# Altium footprint library UDAC.PcbLib: 25 footprints (part 1 of 2)
Each footprint in its own frame and in the unit in brackets; x right, y up, seen from the top. Pads: shape width x height; smd on the part's side, far side on the other; paste and mask are expansions set on the pad; w line width, h text height; cw(c..) or ccw(c..) is an arc to the next point about the centre after c.
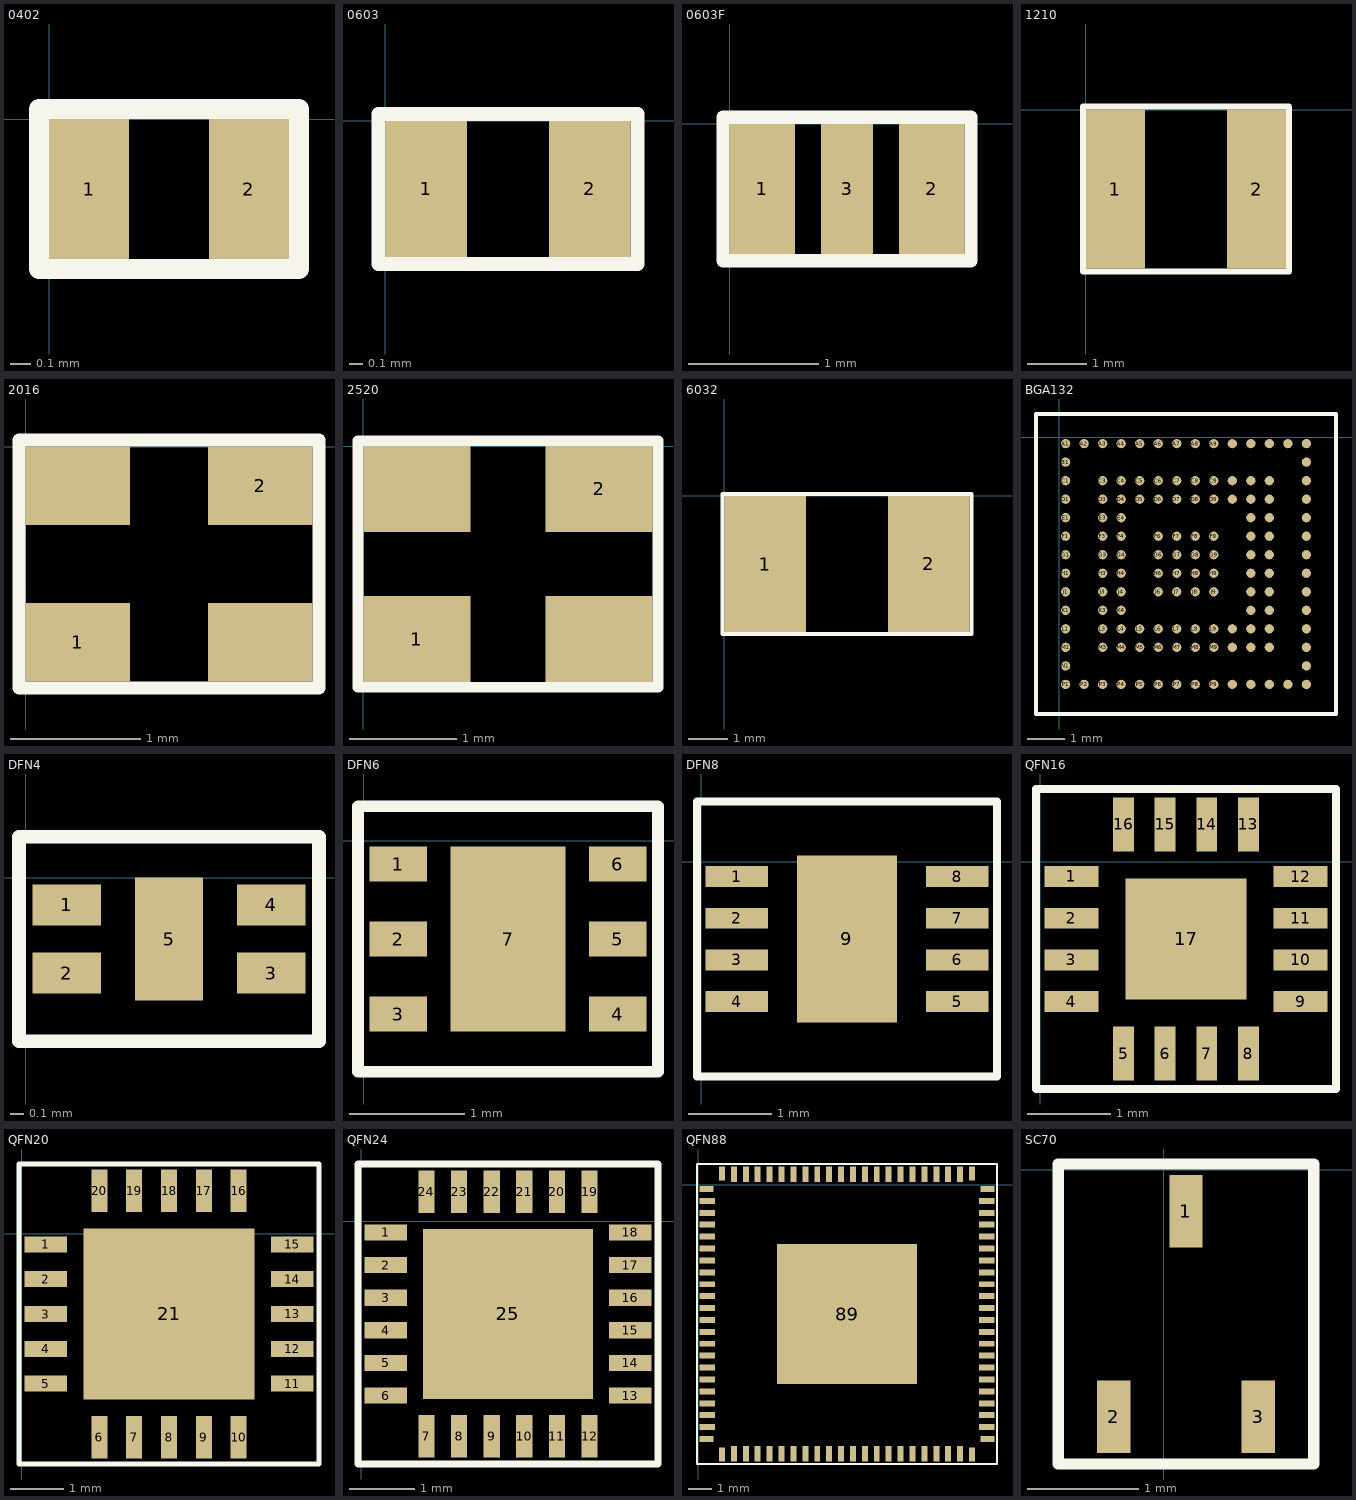
[diagram p0: the footprints below, top view; thin cyan lines are the x and y axes]

## 0402 [mm] "1005"
height 0.5
pads (2):
  rect 0.4x0.7 smd mask+0: 1(0.2,-0.35) 2(1,-0.35)
Top Overlay:
  lines w0.1: -0.05,-0.75 1.25,-0.75 1.25,0.05 -0.05,0.05 -0.05,-0.75

## 0603 [mm] "1608"
height 0.8
pads (2):
  rect 0.6x1 smd mask+0: 1(0.3,-0.5) 2(1.5,-0.5)
Top Overlay:
  lines w0.1: -0.05,-1.05 -0.05,0.05 1.85,0.05 1.85,-1.05 -0.05,-1.05

## 0603F [mm] "1608 with center pin"
height 0.8
pads (3):
  rect 0.5x1 smd mask+0: 1(0.25,-0.5) 2(1.55,-0.5)
  rect 0.4x1 smd mask+0: 3(0.9,-0.5)
Top Overlay:
  lines w0.1: -0.05,-1.05 -0.05,0.05 1.85,0.05 1.85,-1.05 -0.05,-1.05

## 1210 [mm] "3225"
height 1.8
pads (2):
  rect 1x2.7 smd mask+0: 1(0.5,-1.35) 2(2.9,-1.35)
Top Overlay:
  lines w0.1: -0.05,-2.75 -0.05,0.05 3.45,0.05 3.45,-2.75 -0.05,-2.75

## 2016 [mm] "2016"
height 0.5
pads (4):
  rect 0.8x0.6 smd mask+0: 1(0.4,-1.5) 2(1.8,-0.3) ""(0.4,-0.3) ""(1.8,-1.5)
Top Overlay:
  lines w0.1: -0.05,-1.85 -0.05,0.05 2.25,0.05 2.25,-1.85 -0.05,-1.85

## 2520 [mm] "2520"
height 0.5
pads (4):
  rect 1x0.8 smd mask+0: 1(0.5,-1.8) 2(2.2,-0.4) ""(0.5,-0.4) ""(2.2,-1.8)
Top Overlay:
  lines w0.1: -0.05,-2.25 2.75,-2.25 2.75,0.05 -0.05,0.05 -0.05,-2.25

## 6032 [mm] "6032"
height 2.8
pads (2):
  rect 2.1x3.5 smd mask+0: 1(1.05,-1.75) 2(5.25,-1.75)
Top Overlay:
  lines w0.1: -0.05,-3.55 -0.05,0.05 6.35,0.05 6.35,-3.55 -0.05,-3.55

## BGA132 [mm] "BGA132 8.0*8.0mm"
height 1
pads (132):
  round 0.25 smd mask+0.05: A1(0.175,-0.175) A2(0.675,-0.175) A3(1.175,-0.175) A4(1.675,-0.175) A5(2.175,-0.175) A6(2.675,-0.175) A7(3.175,-0.175) A8(3.675,-0.175) A9(4.175,-0.175) A10(4.675,-0.175) A11(5.175,-0.175) A12(5.675,-0.175) A13(6.175,-0.175) A14(6.675,-0.175) B1(0.175,-0.675) B14(6.675,-0.675) C1(0.175,-1.175) C3(1.175,-1.175) C4(1.675,-1.175) C5(2.175,-1.175) C6(2.675,-1.175) C7(3.175,-1.175) C8(3.675,-1.175) C9(4.175,-1.175) C10(4.675,-1.175) C11(5.175,-1.175) C12(5.675,-1.175) C14(6.675,-1.175) D1(0.175,-1.675) D3(1.175,-1.675) D4(1.675,-1.675) D5(2.175,-1.675) D6(2.675,-1.675) D7(3.175,-1.675) D8(3.675,-1.675) D9(4.175,-1.675) D10(4.675,-1.675) D11(5.175,-1.675) D12(5.675,-1.675) D14(6.675,-1.675) E1(0.175,-2.175) E3(1.175,-2.175) E4(1.675,-2.175) E11(5.175,-2.175) E12(5.675,-2.175) E14(6.675,-2.175) F1(0.175,-2.675) F3(1.175,-2.675) F4(1.675,-2.675) F6(2.675,-2.675) F7(3.175,-2.675) F8(3.675,-2.675) F9(4.175,-2.675) F11(5.175,-2.675) F12(5.675,-2.675) F14(6.675,-2.675) G1(0.175,-3.175) G3(1.175,-3.175) G4(1.675,-3.175) G6(2.675,-3.175) G7(3.175,-3.175) G8(3.675,-3.175) G9(4.175,-3.175) G11(5.175,-3.175) G12(5.675,-3.175) G14(6.675,-3.175) H1(0.175,-3.675) H3(1.175,-3.675) H4(1.675,-3.675) H6(2.675,-3.675) H7(3.175,-3.675) H8(3.675,-3.675) H9(4.175,-3.675) H11(5.175,-3.675) H12(5.675,-3.675) H14(6.675,-3.675) J1(0.175,-4.175) J3(1.175,-4.175) J4(1.675,-4.175) J6(2.675,-4.175) J7(3.175,-4.175) J8(3.675,-4.175) J9(4.175,-4.175) J11(5.175,-4.175) J12(5.675,-4.175) J14(6.675,-4.175) K1(0.175,-4.675) K3(1.175,-4.675) K4(1.675,-4.675) K11(5.175,-4.675) K12(5.675,-4.675) K14(6.675,-4.675) L1(0.175,-5.175) L3(1.175,-5.175) L4(1.675,-5.175) L5(2.175,-5.175) L6(2.675,-5.175) L7(3.175,-5.175) L8(3.675,-5.175) L9(4.175,-5.175) L10(4.675,-5.175) L11(5.175,-5.175) L12(5.675,-5.175) L14(6.675,-5.175) M1(0.175,-5.675) M3(1.175,-5.675) M4(1.675,-5.675) M5(2.175,-5.675) M6(2.675,-5.675) M7(3.175,-5.675) M8(3.675,-5.675) M9(4.175,-5.675) M10(4.675,-5.675) M11(5.175,-5.675) M12(5.675,-5.675) M14(6.675,-5.675) N1(0.175,-6.175) N14(6.675,-6.175) P1(0.175,-6.675) P2(0.675,-6.675) P3(1.175,-6.675) P4(1.675,-6.675) P5(2.175,-6.675) P6(2.675,-6.675) P7(3.175,-6.675) P8(3.675,-6.675) P9(4.175,-6.675) P10(4.675,-6.675) P11(5.175,-6.675) P12(5.675,-6.675) P13(6.175,-6.675) P14(6.675,-6.675)
Top Overlay:
  lines w0.1: -0.625,-7.475 -0.625,0.625 7.475,0.625 7.475,-7.475 -0.625,-7.475

## DFN4 [mm] "DFN4 1.2*1.6mm"
height 0.8
pads (5):
  rect 0.5x0.3 smd mask+0.05: 1(0.3,-0.2) 2(0.3,-0.7) 3(1.8,-0.7) 4(1.8,-0.2)
  rect 0.5x0.9 smd mask+0: 5(1.05,-0.45)
Top Overlay:
  lines w0.1: -0.05,-1.2 -0.05,0.3 2.15,0.3 2.15,-1.2 -0.05,-1.2

## DFN6 [mm] "DFN6 2*2mm"
height 0.8
pads (7):
  rect 0.5x0.3 smd mask+0.05: 1(0.3,-0.2) 2(0.3,-0.85) 3(0.3,-1.5) 4(2.2,-1.5) 5(2.2,-0.85) 6(2.2,-0.2)
  rect 1x1.6 smd mask+0: 7(1.25,-0.85)
Top Overlay:
  lines w0.1: -0.05,-2 2.55,-2 2.55,0.3 -0.05,0.3 -0.05,-2

## DFN8 [mm] "DFN 3*3mm"
height 1
pads (9):
  rect 0.75x0.25 smd mask+0.05: 1(0.425,-0.175) 2(0.425,-0.675) 3(0.425,-1.175) 4(0.425,-1.675) 5(3.075,-1.675) 6(3.075,-1.175) 7(3.075,-0.675) 8(3.075,-0.175)
  rect 1.2x2 smd mask+0: 9(1.75,-0.925)
Top Overlay:
  lines w0.1: -0.05,-2.575 3.55,-2.575 3.55,0.725 -0.05,0.725 -0.05,-2.575

## QFN16 [mm] "QFN16 3*3mm"
height 1
pads (17):
  rect 0.65x0.25 smd mask+0.05: 1(0.375,-0.175) 2(0.375,-0.675) 3(0.375,-1.175) 4(0.375,-1.675) 9(3.125,-1.675) 10(3.125,-1.175) 11(3.125,-0.675) 12(3.125,-0.175)
  rect 0.25x0.65 smd mask+0.05: 5(1,-2.3) 6(1.5,-2.3) 7(2,-2.3) 8(2.5,-2.3) 13(2.5,0.45) 14(2,0.45) 15(1.5,0.45) 16(1,0.45)
  rect 1.45x1.45 smd mask+0: 17(1.75,-0.925)
Top Overlay:
  lines w0.1: -0.05,-2.725 -0.05,0.875 3.55,0.875 3.55,-2.725 -0.05,-2.725

## QFN20 [mm] "QFN20 4*4mm"
height 1
pads (21):
  rect 0.8x0.3 smd mask+0.05: 1(0.45,-0.2) 2(0.45,-0.85) 3(0.45,-1.5) 4(0.45,-2.15) 5(0.45,-2.8) 11(5.05,-2.8) 12(5.05,-2.15) 13(5.05,-1.5) 14(5.05,-0.85) 15(5.05,-0.2)
  rect 0.3x0.8 smd mask+0.05: 6(1.45,-3.8) 7(2.1,-3.8) 8(2.75,-3.8) 9(3.4,-3.8) 10(4.05,-3.8) 16(4.05,0.8) 17(3.4,0.8) 18(2.75,0.8) 19(2.1,0.8) 20(1.45,0.8)
  rect 3.2x3.2 smd mask+0: 21(2.75,-1.5)
Top Overlay:
  lines w0.1: -0.05,-4.3 5.55,-4.3 5.55,1.3 -0.05,1.3 -0.05,-4.3

## QFN24 [mm] "QFN24 4*4mm"
height 1
pads (25):
  rect 0.65x0.25 smd mask+0.05: 1(0.375,-0.175) 2(0.375,-0.675) 3(0.375,-1.175) 4(0.375,-1.675) 5(0.375,-2.175) 6(0.375,-2.675) 13(4.125,-2.675) 14(4.125,-2.175) 15(4.125,-1.675) 16(4.125,-1.175) 17(4.125,-0.675) 18(4.125,-0.175)
  rect 0.25x0.65 smd mask+0.05: 7(1,-3.3) 8(1.5,-3.3) 9(2,-3.3) 10(2.5,-3.3) 11(3,-3.3) 12(3.5,-3.3) 19(3.5,0.45) 20(3,0.45) 21(2.5,0.45) 22(2,0.45) 23(1.5,0.45) 24(1,0.45)
  rect 2.6x2.6 smd mask+0: 25(2.25,-1.425)
Top Overlay:
  lines w0.1: -0.05,-3.725 4.55,-3.725 4.55,0.875 -0.05,0.875 -0.05,-3.725

## QFN88 [mm] "QFN88 12*12mm"
height 1
pads (89):
  rect 0.6x0.25 smd mask+0.05: 1(0.35,-0.175) 22(0.35,-10.675) 45(12.15,-10.675) 66(12.15,-0.175)
  rect 0.65x0.25 smd mask+0.05: 2(0.375,-0.675) 3(0.375,-1.175) 4(0.375,-1.675) 5(0.375,-2.175) 6(0.375,-2.675) 7(0.375,-3.175) 8(0.375,-3.675) 9(0.375,-4.175) 10(0.375,-4.675) 11(0.375,-5.175) 12(0.375,-5.675) 13(0.375,-6.175) 14(0.375,-6.675) 15(0.375,-7.175) 16(0.375,-7.675) 17(0.375,-8.175) 18(0.375,-8.675) 19(0.375,-9.175) 20(0.375,-9.675) 21(0.375,-10.175) 46(12.125,-10.175) 47(12.125,-9.675) 48(12.125,-9.175) 49(12.125,-8.675) 50(12.125,-8.175) 51(12.125,-7.675) 52(12.125,-7.175) 53(12.125,-6.675) 54(12.125,-6.175) 55(12.125,-5.675) 56(12.125,-5.175) 57(12.125,-4.675) 58(12.125,-4.175) 59(12.125,-3.675) 60(12.125,-3.175) 61(12.125,-2.675) 62(12.125,-2.175) 63(12.125,-1.675) 64(12.125,-1.175) 65(12.125,-0.675)
  rect 0.25x0.6 smd mask+0.05: 23(1,-11.325) 44(11.5,-11.325) 67(11.5,0.475) 88(1,0.475)
  rect 0.25x0.65 smd mask+0.05: 24(1.5,-11.3) 25(2,-11.3) 26(2.5,-11.3) 27(3,-11.3) 28(3.5,-11.3) 29(4,-11.3) 30(4.5,-11.3) 31(5,-11.3) 32(5.5,-11.3) 33(6,-11.3) 34(6.5,-11.3) 35(7,-11.3) 36(7.5,-11.3) 37(8,-11.3) 38(8.5,-11.3) 39(9,-11.3) 40(9.5,-11.3) 41(10,-11.3) 42(10.5,-11.3) 43(11,-11.3) 68(11,0.45) 69(10.5,0.45) 70(10,0.45) 71(9.5,0.45) 72(9,0.45) 73(8.5,0.45) 74(8,0.45) 75(7.5,0.45) 76(7,0.45) 77(6.5,0.45) 78(6,0.45) 79(5.5,0.45) 80(5,0.45) 81(4.5,0.45) 82(4,0.45) 83(3.5,0.45) 84(3,0.45) 85(2.5,0.45) 86(2,0.45) 87(1.5,0.45)
  rect 5.9x5.9 smd mask+0: 89(6.25,-5.425)
Top Overlay:
  lines w0.1: -0.05,-11.725 -0.05,0.875 12.55,0.875 12.55,-11.725 -0.05,-11.725

## SC70 [mm] "SC70 2*2.2mm"
height 1.1
pads (3):
  rect 0.3x0.65 smd mask+0.05: 1(0.2,-0.375) 2(-0.45,-2.225) 3(0.85,-2.225)
Top Overlay:
  lines w0.1: -0.95,-2.65 -0.95,0.05 1.35,0.05 1.35,-2.65 -0.95,-2.65